# Altium schematic symbol library ATML-ATSAM3X-LQFP-100.SchLib: 1 symbol
Pins are listed as number, name and electrical type; pins without a type are passive.

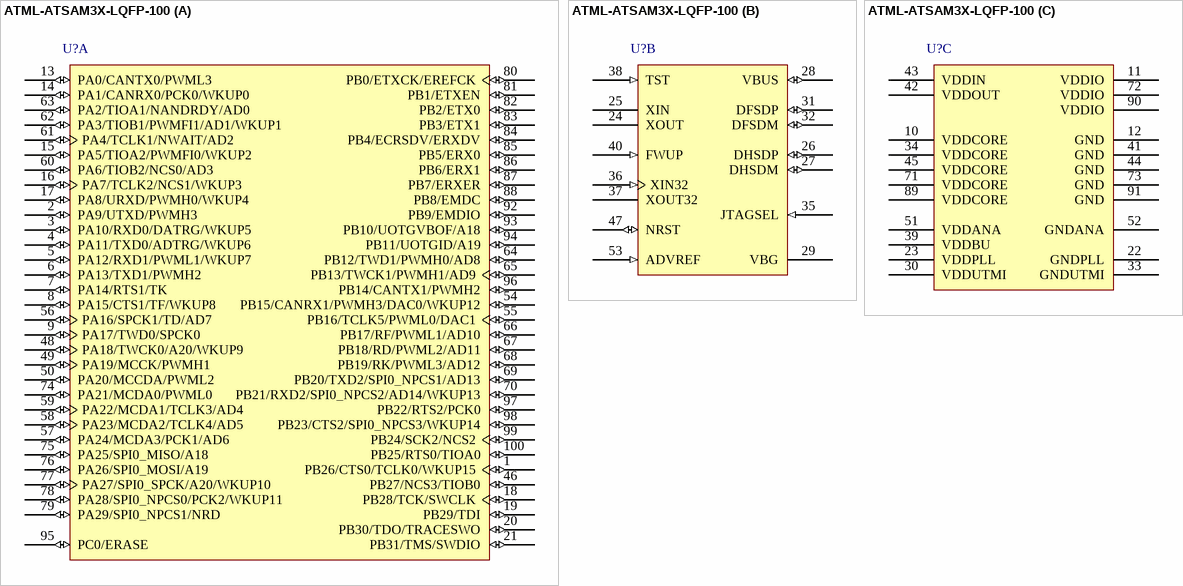
[diagram p0: symbol ATML-ATSAM3X-LQFP-100]

## ATML-ATSAM3X-LQFP-100
designator U?
part A pins: 1 PB26/CTS0/TCLK0/WKUP15 (io), 2 PA9/UTXD/PWMH3 (io), 3 PA10/RXD0/DATRG/WKUP5 (io), 4 PA11/TXD0/ADTRG/WKUP6 (io), 5 PA12/RXD1/PWML1/WKUP7 (io), 6 PA13/TXD1/PWMH2 (io), 7 PA14/RTS1/TK (io), 8 PA15/CTS1/TF/WKUP8 (io), 9 PA17/TWD0/SPCK0 (io), 13 PA0/CANTX0/PWML3 (io), 14 PA1/CANRX0/PCK0/WKUP0 (io), 15 PA5/TIOA2/PWMFI0/WKUP2 (io), 16 PA7/TCLK2/NCS1/WKUP3 (io), 17 PA8/URXD/PWMH0/WKUP4 (io), 18 PB28/TCK/SWCLK (io), 19 PB29/TDI (io), 20 PB30/TDO/TRACESWO (io), 21 PB31/TMS/SWDIO (io), 46 PB27/NCS3/TIOB0 (io), 48 PA18/TWCK0/A20/WKUP9 (io), 49 PA19/MCCK/PWMH1 (io), 50 PA20/MCCDA/PWML2 (io), 54 PB15/CANRX1/PWMH3/DAC0/WKUP12 (io), 55 PB16/TCLK5/PWML0/DAC1 (io), 56 PA16/SPCK1/TD/AD7 (io), 57 PA24/MCDA3/PCK1/AD6 (io), 58 PA23/MCDA2/TCLK4/AD5 (io), 59 PA22/MCDA1/TCLK3/AD4 (io), 60 PA6/TIOB2/NCS0/AD3 (io), 61 PA4/TCLK1/NWAIT/AD2 (io), 62 PA3/TIOB1/PWMFI1/AD1/WKUP1 (io), 63 PA2/TIOA1/NANDRDY/AD0 (io), 64 PB12/TWD1/PWMH0/AD8 (io), 65 PB13/TWCK1/PWMH1/AD9 (io), 66 PB17/RF/PWML1/AD10 (io), 67 PB18/RD/PWML2/AD11 (io), 68 PB19/RK/PWML3/AD12 (io), 69 PB20/TXD2/SPI0_NPCS1/AD13 (io), 70 PB21/RXD2/SPI0_NPCS2/AD14/WKUP13 (io), 74 PA21/MCDA0/PWML0 (io), 75 PA25/SPI0_MISO/A18 (io), 76 PA26/SPI0_MOSI/A19 (io), 77 PA27/SPI0_SPCK/A20/WKUP10 (io), 78 PA28/SPI0_NPCS0/PCK2/WKUP11 (io), 79 PA29/SPI0_NPCS1/NRD (io), 80 PB0/ETXCK/EREFCK (io), 81 PB1/ETXEN (io), 82 PB2/ETX0 (io), 83 PB3/ETX1 (io), 84 PB4/ECRSDV/ERXDV (io), 85 PB5/ERX0 (io), 86 PB6/ERX1 (io), 87 PB7/ERXER (io), 88 PB8/EMDC (io), 92 PB9/EMDIO (io), 93 PB10/UOTGVBOF/A18 (io), 94 PB11/UOTGID/A19 (io), 95 PC0/ERASE (io), 96 PB14/CANTX1/PWMH2 (io), 97 PB22/RTS2/PCK0 (io), 98 PB23/CTS2/SPI0_NPCS3/WKUP14 (io), 99 PB24/SCK2/NCS2 (io), 100 PB25/RTS0/TIOA0 (io)
part B pins: 24 XOUT "Main Oscillator Output", 25 XIN "Main Oscillator Input", 26 DHSDP (io) "USB High Speed Data +", 27 DHSDM (io) "USB High Speed Data -", 28 VBUS (io) "USB Bus Power Measurement Mini Host/Device", 29 VBG "Bias Voltage Reference", 31 DFSDP (io) "USB Full Speed Data +", 32 DFSDM (io) "USB Full Speed Data -", 35 JTAGSEL (in) "JTAG Selection", 36 XIN32 (in) "Slow Clock Oscillator Input", 37 XOUT32 "Slow Clock Oscillator Output", 38 TST (in) "Test Mode Select", 40 FWUP (in) "Force Wake-up Input", 47 NRST (io) "Microcontroller Reset", 53 ADVREF (in) "ADC and DAC Reference"
part C pins: 10 VDDCORE (power) "Core Chip Power Supply", 11 VDDIO (power) "Peripherals I/O Lines Power Supply", 12 GND (power) "Ground", 22 GNDPLL (power) "PLL A, UPLL and Oscillator Ground", 23 VDDPLL (power) "PLL A, UPLL and Oscillator Power Supply", 30 VDDUTMI (power) "USB UTMI+ Interface Power Supply", 33 GNDUTMI (power) "USB UTMI+ Interface Ground", 34 VDDCORE (power) "Core Chip Power Supply", 39 VDDBU (power) "Backup I/O Lines Power Supply", 41 GND (power) "Ground", 42 VDDOUT (power) "Voltage Regulator Output", 43 VDDIN (power) "Voltage Regulator, ADC and DAC Power Supply", 44 GND (power) "Ground", 45 VDDCORE (power) "Core Chip Power Supply", 51 VDDANA (power) "ADC and DAC Analog Power Supply", 52 GNDANA (power) "ADC and DAC Analog Ground", 71 VDDCORE (power) "Core Chip Power Supply", 72 VDDIO (power) "Peripherals I/O Lines Power Supply", 73 GND (power) "Ground", 89 VDDCORE (power) "Core Chip Power Supply", 90 VDDIO (power) "Peripherals I/O Lines Power Supply", 91 GND (power) "Ground"